# Altium schematic symbol library Sonar_Amp__Schlib.SchLib: 2 symbols
Pins are listed as number, name and electrical type; pins without a type are passive.

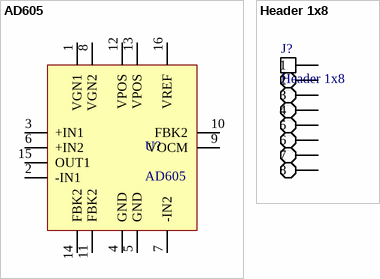
[diagram p0: symbols AD605 to Header 1x8]

## AD605
designator U?
ComponentLink1Description: Satın Alma Linki; ComponentLink1URL: https://karakoyelektronik.com/entegre-opamp/ad605arz-ad605-soic-16-smd-entegre-73227; ComponentLink2Description: Datasheet; ComponentLink2URL: https://www.analog.com/media/en/technical-documentation/data-sheets/ad605.pdf
footprint SOIC127P600X175-16N (SOIC, 16-Leads, Body 9,90x3,90mm, Pitch 1,27mm, IPC Medium Density)
pins: 1 VGN1, 2 -IN1, 3 +IN1, 4 GND, 5 GND, 6 +IN2, 7 -IN2, 8 VGN2, 9 VOCM, 10 FBK2, 11 FBK2, 12 VPOS, 13 VPOS, 14 FBK2, 15 OUT1, 16 VREF

## Header 1x8
designator J?
Header; ComponentLink3Description: Satın Alma Linki; ComponentLink3URL: https://www.robotistan.com/1x40-180-12mm
footprint Header 1x8
pins: 1, 2, 3, 4, 5, 6, 7, 8